# EAGLE library part NCP1380B (library on-semi)
Quasi-Resonant Current-Mode Controller
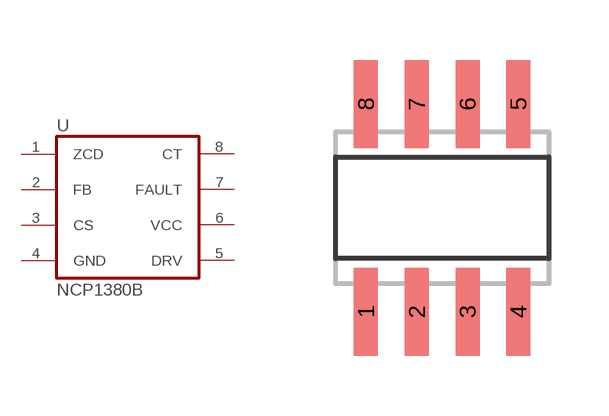
[diagram p2: symbol with the pads of SO08; footprint SO08]

Designator prefix U

## NCP1380BD (P1I: o)  [SO08]
1  ZCD  in
2  FB  in
3  CS  in
4  GND  pas
5  DRV
6  VCC  pas
7  FAULT  in
8  CT  in

## Footprint SO08 (pad centres in mm)
SMALL OUTLINE INTEGRATED CIRCUIT body 3.9 mm/JEDEC MS-012AA
smd 0.6 x 2.2: 1 -1.905,-2.6; 2 -0.635,-2.6; 3 0.635,-2.6; 4 1.905,-2.6; 5 1.905,2.6; 6 0.635,2.6; 7 -0.635,2.6; 8 -1.905,2.6